# Altium footprint library UHD111A_LED.PcbLib: 1 footprints
Each footprint in its own frame and in the unit in brackets; x right, y up, seen from the top. Pads: shape width x height; smd on the part's side, far side on the other; paste and mask are expansions set on the pad; w line width, h text height; cw(c..) or ccw(c..) is an arc to the next point about the centre after c.
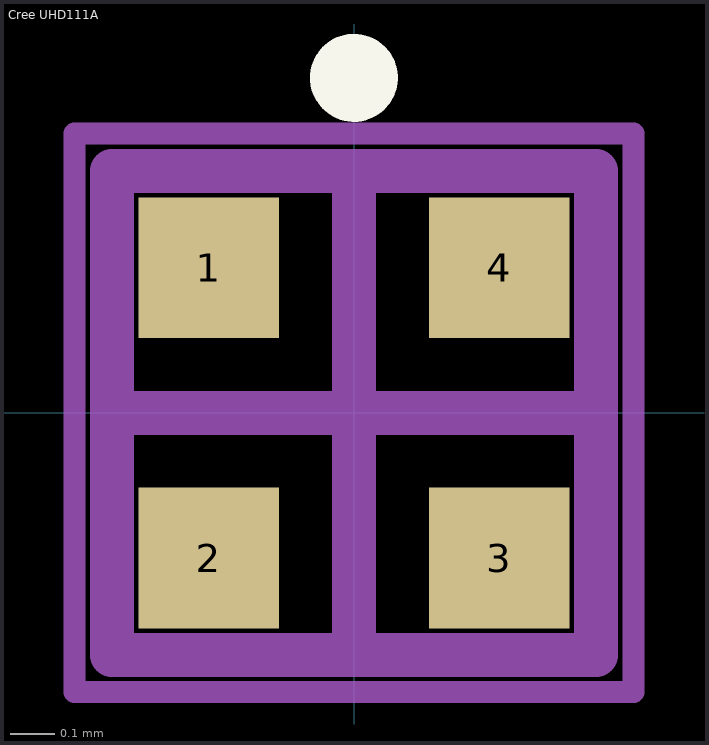
[diagram p0: the footprint, top view; thin cyan lines are the x and y axes]

## Cree UHD111A [mm] "UHD111A, 4-Leads, Body 1,00x1,00mm, Pitch 0,66mm, IPC Medium Density"
height 0.6
pads (4):
  rect 0.32x0.32 smd: 1(-0.33,0.33) 2(-0.33,-0.33) 3(0.33,-0.33) 4(0.33,0.33)
Top Overlay:
  circle w0.1: c0,0.762 r0.05
Mechanical 13:
  lines w0.1: -0.55,-0.55 0.55,-0.55 0.55,0.55 -0.55,0.55 -0.55,-0.55
Mechanical 15:
  lines w0.05: -0.635,-0.635 0.635,-0.635 0.635,0.635 -0.635,0.635 -0.635,-0.635
  lines w0.1: -0.5,0 0.5,0 ; 0,-0.5 0,0.5
3D body "UHD111A.stp": height 0.61, standoff 0.01, extent -0.5,-0.5 0.5,0.5